# EAGLE library part 10118192-0001LF (library SamacSys_Parts)
USB Connectors 5P MICRO USB TYPE B RECEPTACLE Source: Datasheet <https://www.mouser.tw/datasheet/2/18/10118192-1361887.pdf>
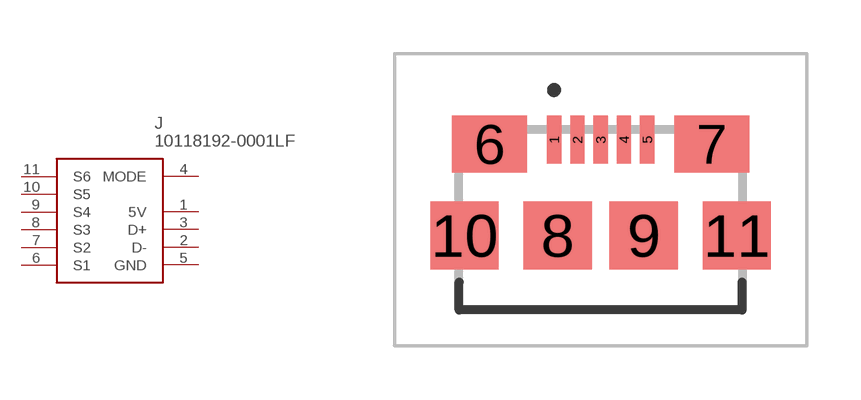
[diagram p2: symbol with the pads of 101181920001LF; footprint 101181920001LF]

Designator prefix J

## 10118192-0001LF (ARROW_PART_NUMBER: 10118192-0001LF; ARROW_PRICE-STOCK: https://www.arrow.com/en/products/10118192-0001lf/amphenol-fci; DESCRIPTION: USB Connectors 5P MICRO USB TYPE B RECEPTACLE; HEIGHT: 2.8mm; MANUFACTURER_NAME: Amphenol; MANUFACTURER_PART_NUMBER: 10118192-0001LF; MOUSER_PART_NUMBER: 649-10118192-0001LF; MOUSER_PRICE-STOCK: https://www.mouser.co.uk/ProductDetail/Amphenol-FCI/10118192-0001LF?qs=Ywefl8B65e5bHFoQtIudZg%3D%3D)  [101181920001LF]
1  5V
2  D-
3  D+
4  MODE
5  GND
6  S1
7  S2
8  S3
9  S4
10  S5
11  S6

## Footprint 101181920001LF (pad centres in mm)
10118192-0001LF
smd 0.4 x 1.35: 1 -1.3,1.682; 2 -0.65,1.682; 3 0,1.682; 4 0.65,1.682; 5 1.3,1.682
smd 2.1 x 1.6: 6 -3.1,1.557; 7 3.1,1.557
smd 1.9 x 1.9: 8 -1.2,-0.993; 9 1.2,-0.993; 10 -3.8,-0.993; 11 3.8,-0.993